# Altium schematic symbol library PNP2.Schlib: 1 symbol
Pins are listed as number, name and electrical type; pins without a type are passive.

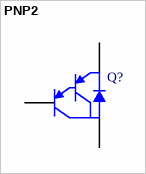
[diagram p0: symbol PNP2]

## PNP2
designator Q?
PNP Darlington Bipolar Transistor
pins: 1 C, 2 B, 3 E